# EAGLE library part 0541323062 (library CardReader)
30 Position FFC, FPC Connector Contacts, Bottom 0.020" (0.50mm) Surface Mount, Right Angle
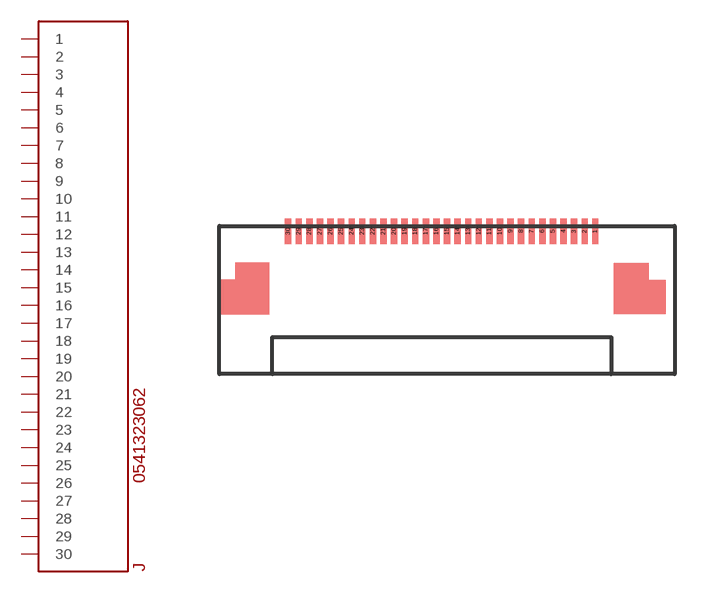
[diagram p7: symbol with the pads of 0541323062; footprint 0541323062]

Designator prefix J

## 0541323062  [0541323062]
1  1
2  2
3  3
4  4
5  5
6  6
7  7
8  8
9  9
10  10
11  11
12  12
13  13
14  14
15  15
16  16
17  17
18  18
19  19
20  20
21  21
22  22
23  23
24  24
25  25
26  26
27  27
28  28
29  29
30  30

## Footprint 0541323062 (pad centres in mm)
smd 0.3 x 1.2: 1 7.25,1.5; 2 6.75,1.5; 3 6.25,1.5; 4 5.75,1.5; 5 5.25,1.5; 6 4.75,1.5; 7 4.25,1.5; 8 3.75,1.5; 9 3.25,1.5; 10 2.75,1.5; 11 2.25,1.5; 12 1.75,1.5; 13 1.25,1.5; 14 0.75,1.5; 15 0.25,1.5; 16 -0.25,1.5; 17 -0.75,1.5; 18 -1.25,1.5; 19 -1.75,1.5; 20 -2.25,1.5; 21 -2.75,1.5; 22 -3.25,1.5; 23 -3.75,1.5; 24 -4.25,1.5; 25 -4.75,1.5; 26 -5.25,1.5; 27 -5.75,1.5; 28 -6.25,1.5; 29 -6.75,1.5; 30 -7.25,1.5